# Altium footprint library PiezoControlBoard.PcbLib: 30 footprints (part 2 of 2)
Each footprint in its own frame and in the unit in brackets; x right, y up, seen from the top. Pads: shape width x height; smd on the part's side, far side on the other; paste and mask are expansions set on the pad; w line width, h text height; cw(c..) or ccw(c..) is an arc to the next point about the centre after c.
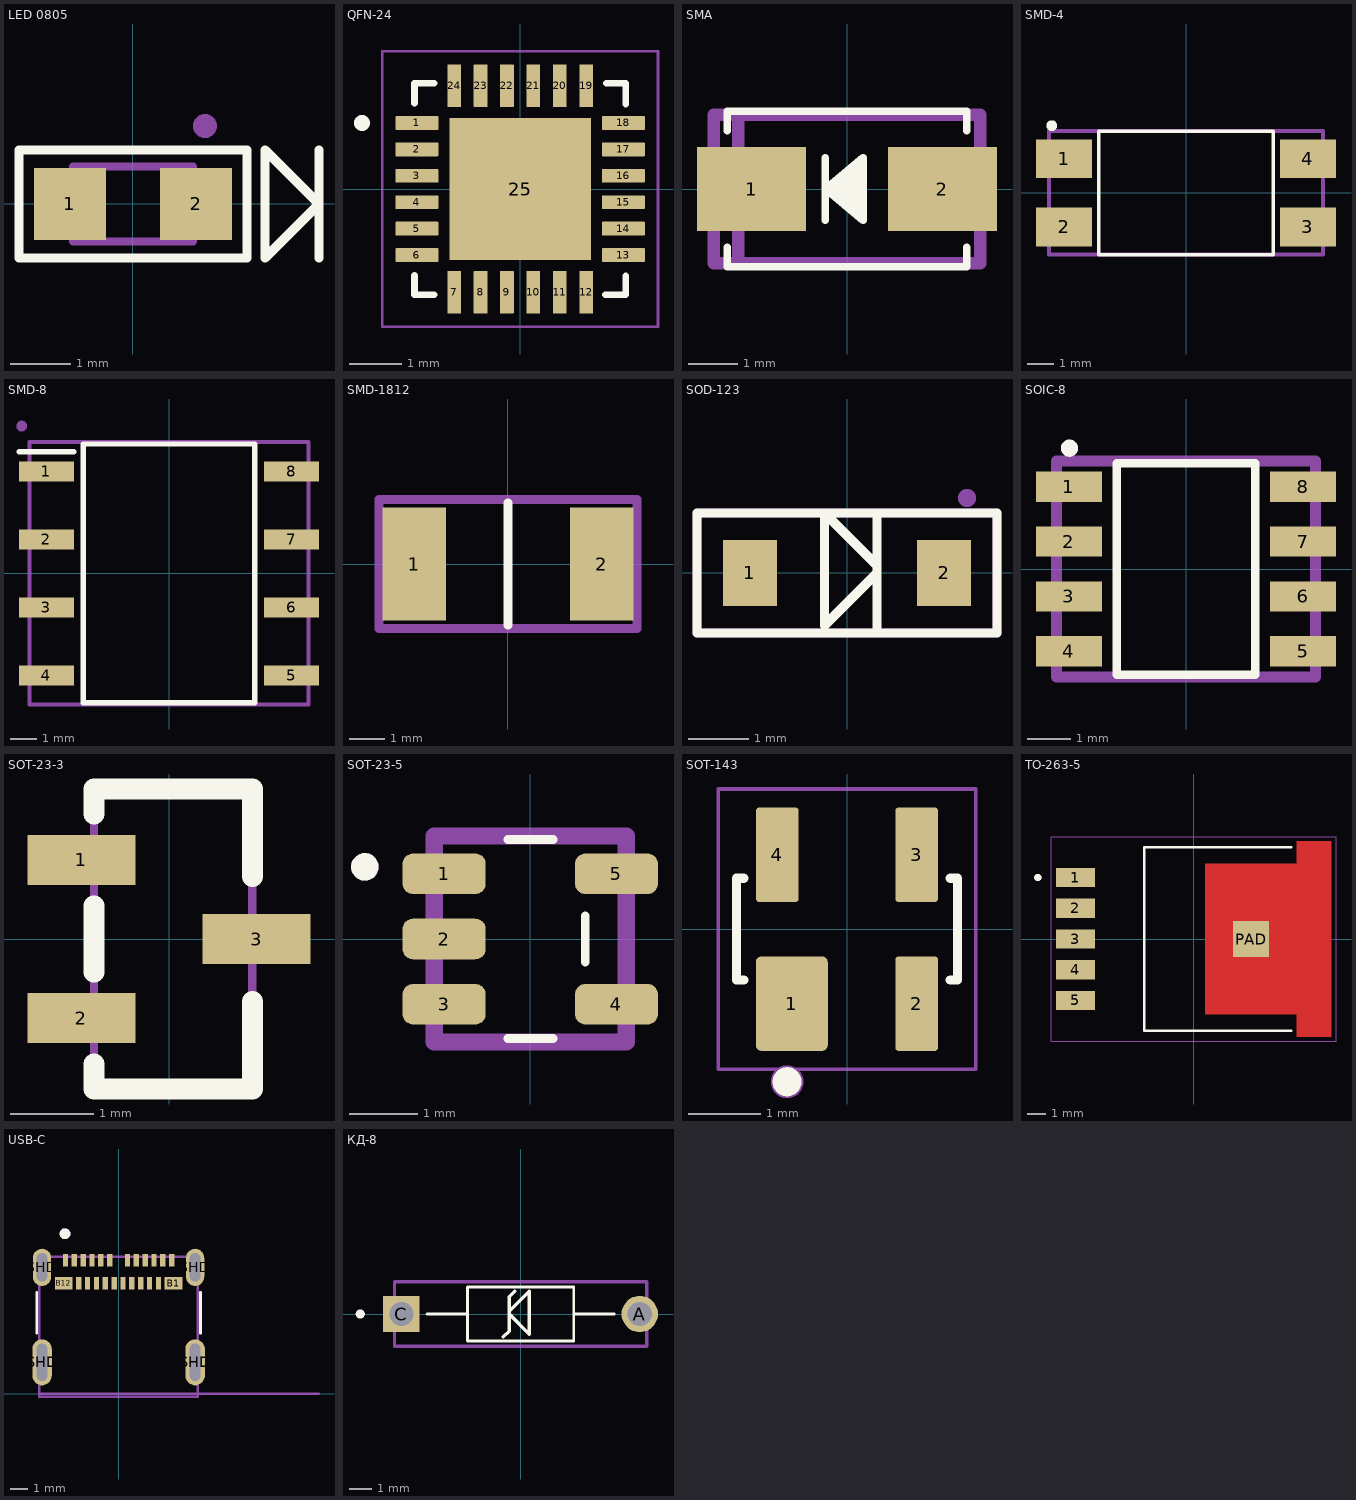
[diagram p1: the footprints below, top view; thin cyan lines are the x and y axes]

## LED 0805 [mm]
pads (2):
  rect 1.2x1.2 smd: 1(-1.05,0) 2(1.05,0)
Top Overlay:
  lines w0.15: 1.9,0.8 1.9,0.9 ; 3.1,-0.9 3.1,0.9 ; 1.9,0.9 -1.9,0.9 -1.9,-0.9 1.9,-0.9 1.9,0.9 ; 3.1,0 2.2,-0.9 2.2,0.9 3.1,0 ; 3.1,0 3.1,0
Mechanical 13:
  circle w0.2: c1.2,1.3 r0.1
Mechanical 29:
  lines w0.127: -1,-0.625 1,-0.625 1,0.625 -1,0.625 -1,-0.625
  text ".Designator" at -1.27,-0.053 h0.5
3D body "LED0805.STEP": height 1.1, standoff 0, extent -1,-0.625 1,0.625

## QFN-24 [mm]
pads (25):
  rrect10% 0.81x0.26 smd: 1(-1.955,1.25) 2(-1.955,0.75) 3(-1.955,0.25) 4(-1.955,-0.25) 5(-1.955,-0.75) 6(-1.955,-1.25) 13(1.955,-1.25) 14(1.955,-0.75) 15(1.955,-0.25) 16(1.955,0.25) 17(1.955,0.75) 18(1.955,1.25)
  rrect10% 0.26x0.81 smd: 7(-1.25,-1.955) 8(-0.75,-1.955) 9(-0.25,-1.955) 10(0.25,-1.955) 11(0.75,-1.955) 12(1.25,-1.955) 19(1.25,1.955) 20(0.75,1.955) 21(0.25,1.955) 22(-0.25,1.955) 23(-0.75,1.955) 24(-1.25,1.955)
  rect 2.68x2.68 smd paste-2: 25(0,0)
Top Overlay:
  circle w0.15: c-2.996,1.25 r0.075
  lines w0.127: -2,-1.639 -2,-2 -1.625,-2 ; -2,1.623 -2,2 -1.63,2 ; 1.612,-2 2,-2 2,-1.643 ; 1.628,2 2,2 2,1.606
Top Paste:
  region: 1.09,-1.09 0.13,-1.09 0.13,-0.13 1.09,-0.13
  region: -0.13,-1.092 -1.092,-1.092 -1.092,-0.13 -0.13,-0.13
  region: 1.09,0.13 0.13,0.13 0.13,1.09 1.09,1.09
  region: -0.13,0.13 -1.091,0.13 -1.091,1.09 -0.13,1.09
Mechanical 29:
  lines w0.05: -2.61,-2.61 -2.61,2.61 2.61,2.61 2.61,-2.61 -2.61,-2.61
  text ".Designator" at -3.454,-0.617 h2
3D body "CP2104.STEP": height 0.81, standoff 0.01, extent -2,-2 2,2

## SMA [mil]
pads (2):
  rect 87x67 smd paste+0 mask+0: 1(-76,0) 2(76,0)
Top Overlay:
  lines w6: -95.5,-46.6 -95.5,-62 95.5,-62 95.5,-46.6 ; -95.5,46.6 -95.5,62 95.5,62 95.5,46.6 ; -17.18,-25 -17.18,25 ; -2.18,0 12.82,0 ; 12.82,-20 -17.18,0 ; 12.82,-15 -17.18,0 ; 12.82,-10 -17.18,0 ; 12.82,-5 -17.18,0 ; 12.82,5 -17.18,0 ; 12.82,10 -17.18,0 ; 12.82,15 -17.18,0 ; 12.82,20 -17.18,0 ; -17.18,0 12.82,-25 12.82,25 -17.18,0
Mechanical 29:
  lines w10: -86.61,-59.06 -86.61,59.06 ; -106.3,-59.06 106.3,-59.06 106.3,59.06 -106.3,59.06 -106.3,-59.06
  text ".Designator" at -74.8,-2.03 h39.37
3D body "STTH2R02A.step": height 104.09, standoff 0.07, extent -105.51,-57.01 105.51,57.01

## SMD-4 [mm]
pads (4):
  rect 2.09x1.44 smd: 1(-4.54,1.27) 2(-4.54,-1.27) 3(4.54,-1.27) 4(4.54,1.27)
Top Overlay:
  circle w0.2: c-5,2.5 r0.1
  lines w0.127: -3.25,-2.3 -3.25,2.3 3.25,2.3 3.25,-2.3 -3.25,-2.3
Mechanical 29:
  lines w0.15: -5.1,-2.3 5.1,-2.3 5.1,2.3 -5.1,2.3 -5.1,-2.3
  text ".Designator" at -3.2,-0.277 h1.5
3D body "FOD817BSD.STEP": height 3.85, standoff 0, extent -5.08,-2.3 5.08,2.3

## SMD-8 [mm]
pads (8):
  rect 2.05x0.75 smd: 1(-4.575,3.81) 2(-4.575,1.27) 3(-4.575,-1.27) 4(-4.575,-3.81) 5(4.575,-3.81) 6(4.575,-1.27) 7(4.575,1.27) 8(4.575,3.81)
Top Overlay:
  lines w0.2: -5.6,4.535 -3.55,4.535 ; -3.2,-4.828 3.2,-4.828 3.2,4.828 -3.2,4.828 -3.2,-4.828
Mechanical 29:
  circle w0.2: c-5.5,5.5 r0.1
  lines w0.15: -5.2,-4.9 5.2,-4.9 5.2,4.9 -5.2,4.9 -5.2,-4.9
  text ".Designator" at -3.5,0.223 h1.5
3D body "HCPL2731SD.stp": height 5.08, standoff 0, extent -5.15,-4.828 5.15,4.828

## SMD-1812 [mm]
pads (2):
  rect 1.78x3.15 smd: 1(-2.615,0) 2(2.615,0)
Top Overlay:
  lines w0.254: 0,-1.7 0,1.7
Mechanical 29:
  lines w0.254: -3.6,-1.8 -3.6,1.8 3.6,1.8 3.6,-1.8 -3.6,-1.8
  text ".Designator" at -4.175,-0.467 h1
3D body "1812L020_60DR.stp": height 1.25, standoff 0, extent -2.275,-1.625 2.275,1.625

## SOD-123 [mm]
pads (2):
  rect 0.9x1.1 smd: 1(-1.62,0) 2(1.62,0)
Top Overlay:
  lines w0.15: 0.5,-1 0.5,-0.75 0.5,1 ; 0.5,0.063 0.5,0 ; 0.5,0 -0.375,-0.875 -0.375,1 0.5,0.125 0.5,0 ; -2.5,-1 -2.5,1 2.5,1 2.5,-1 -2.5,-1
Mechanical 29:
  circle w0.2: c2,1.25 r0.05
  lines w0.15: -2.5,-1 2.5,-1 2.5,1 2,1 -2.5,1 -2.5,-1
  text ".Designator" at -3.644,-0.255 h2
3D body "1N5819HW.STEP": height 1.5, standoff -0.03, extent -1.825,-0.775 1.825,0.775

## SOIC-8 [mm]
pads (8):
  rect 1.525x0.7 smd: 1(-2.712,1.905) 2(-2.712,0.635) 3(-2.712,-0.635) 4(-2.712,-1.905) 5(2.712,-1.905) 6(2.712,-0.635) 7(2.712,0.635) 8(2.712,1.905)
Top Overlay:
  circle w0.2: c-2.7,2.8 r0.1
  lines w0.2: -1.6,-2.45 -1.6,2.45 1.6,2.45 1.6,-2.45 -1.6,-2.45
Mechanical 29:
  circle w0.2: c-2.4,1.9 r0.1
  lines w0.254: -3,-2.5 -3,2.5 3,2.5 3,-2.5 -3,-2.5
  text ".Designator" at -4.444,-0.455 h2
3D body "IR2109STRPBF.stp": height 1.75, standoff 0, extent -3,-2.45 3,2.45

## SOT-23-3 [mm]
pads (3):
  rect 1.3x0.6 smd: 1(-1.05,0.95) 2(-1.05,-0.95) 3(1.05,0)
Top Overlay:
  lines w0.25: -0.9,-1.5 -0.9,-1.8 1,-1.8 1,-0.75 ; -0.9,-0.4 -0.9,0.4 ; -0.9,1.5 -0.9,1.8 1,1.8 1,0.75
Mechanical 29:
  lines w0.1: -0.9,-1.8 -0.9,1.5 -0.9,1.8 1,1.8 1,-1.8 -0.9,-1.8
  text ".Designator" at -2.075,-0.367 h1
3D body "SM712.TCT.step": height 1.21, standoff 0.01, extent -1.185,-1.45 1.185,1.45

## SOT-23-5 [mm]
pads (5):
  rrect50% 1.21x0.59 smd: 1(-1.255,0.95) 2(-1.255,0) 3(-1.255,-0.95) 4(1.255,-0.95) 5(1.255,0.95)
Top Overlay:
  circle w0.2: c-2.41,1.05 r0.1
  lines w0.127: -0.33,-1.45 0.33,-1.45 ; -0.33,1.45 0.33,1.45 ; 0.8,-0.335 0.8,0.335
Mechanical 29:
  circle w0.2: c-2.41,1.05 r0.1
  lines w0.254: -1.4,-1.5 -1.4,1.5 1.4,1.5 1.4,-1.5 -1.4,-1.5
  text ".Designator" at -4.475,-0.367 h1
3D body "TLV271IDBVR.STEP": height 1.31, standoff -0.14, extent -1.4,-1.45 1.4,1.45

## SOT-143 [mm]
pads (4):
  rrect15% 0.99x1.3 smd: 1(-0.76,-1.025)
  rrect15% 0.59x1.3 smd: 2(0.96,-1.025) 3(0.96,1.025) 4(-0.96,1.025)
Top Overlay:
  circle w0.2: c-0.825,-2.1 r0.1
  lines w0.127: -1.42,-0.7 -1.52,-0.7 -1.52,0.7 -1.42,0.7 ; 1.42,-0.7 1.52,-0.7 1.52,0.7 1.42,0.7
Mechanical 29:
  circle w0.25: c-0.825,-2.1 r0.1
  lines w0.05: -1.77,-1.93 -1.77,1.93 1.77,1.93 1.77,-1.93 -1.77,-1.93
  text ".Designator" at -3.884,-0.365 h2
3D body "SP0503BAHTG.STEP": height 1.23, standoff 0.01, extent -1.46,-1.185 1.46,1.185

## TO-263-5 [mm]
pads (6):
  rect 2.16x1.07 smd paste+0 mask+0.102: 1(-6.545,3.4) 2(-6.545,1.7) 3(-6.545,0) 4(-6.545,-1.7) 5(-6.545,-3.4)
  rect 2x2 smd paste-2 mask+0: PAD(3.175,0)
Top Layer:
  region: 7.625,-5.4 5.715,-5.4 5.715,-4.165 0.635,-4.165 0.635,4.165 5.715,4.165 5.715,5.4 7.625,5.4
Top Overlay:
  circle w0.2: c-8.625,3.4 r0.1
  lines w0.127: 5.395,-5.08 -2.735,-5.08 -2.735,5.08 5.395,5.08
Mechanical 29:
  circle w0.2: c-8.625,3.4 r0.1
  lines w0.05: -7.875,-5.65 7.875,-5.65 7.875,5.65 -7.875,5.65 -7.875,-5.65
  text ".Designator" at -4.475,-0.467 h1
3D body "LM2575HVS-12_NOPB.STEP": height 4.77, standoff -0.03, extent -7.175,-5.08 7.175,5.08

## USB-C [mm]
pads (28):
  rect 0.298x0.7 smd: A1(-3,7.54) A2(-2.5,7.54) A3(-2,7.54) A4(-1.5,7.54) A5(-1,7.54) A6(-0.5,7.54) A7(0.5,7.54) A8(1,7.54) A9(1.5,7.54) A10(2,7.54) A11(2.5,7.54) A12(3,7.54) B2(2.25,6.24) B3(1.75,6.24) B4(1.25,6.24) B5(0.75,6.24) B6(0.25,6.24) B7(-0.25,6.24) B8(-0.75,6.24) B9(-1.25,6.24) B10(-1.75,6.24) B11(-2.25,6.24)
  rect 0.998x0.7 smd: B1(3.1,6.24) B12(-3.1,6.24)
  oval 1.1x2.6 hole 0.6 slot 2.1 at 90 deg mask+0.064: SHD(-4.32,1.77) SHD(4.32,1.77)
  oval 1.036x2.1 hole 0.6 slot 1.6 at 90 deg mask+0.064: SHD(-4.32,7.13) SHD(4.32,7.13)
Top Overlay:
  circle w0.3: c-3.025,9.025 r0.15
  lines w0.15: -4.62,3.42 -4.62,5.72 ; 4.62,3.42 4.62,5.72
Mechanical 29:
  circle w0.3: c-3.025,9.025 r0.15
  lines w0.13: -4.47,0 4.47,0 ; 11.31,0 4.47,0 ; 4.47,0 4.47,-0.18 -4.47,-0.18 -4.47,7.72 4.47,7.72 4.47,0
  text ".Designator" at -4.475,3.797 h2
  text "PCB Edge" at 5.4,0.27 h1
3D body "105450-0101.STEP": height 3.21, standoff -0.89, extent -4.42,-0.13 4.52,7.77

## КД-8 [mm]
pads (2):
  round 1.59 hole 1.06: A(5.197,0)
  rect 1.59x1.59 / inner round 1.59 / far side rect 1.59x1.59 hole 1.06: C(-5.197,0)
Top Overlay:
  circle w0.2: c-6.992,0 r0.1
  lines w0.127: -4.082,0 -2.318,0 ; 4.082,0 2.318,0 ; -2.318,0 -2.318,-1.18 2.318,-1.18 2.318,0 ; -2.318,0 -2.318,1.18 2.318,1.18 2.318,0
  lines w0.15: -0.75,-1 -0.5,-0.75 ; -0.5,0.063 -0.5,0 ; -0.25,1 -0.5,0.75 -0.5,-0.75 ; -0.5,-0.75 -0.5,-0.75 ; -0.5,0 0.375,-0.875 0.375,1 -0.5,0.125 -0.5,0
Mechanical 29:
  lines w0.15: -5.5,-1.4 -5.5,1.4 5.5,1.4 5.5,-1.4 -5.5,-1.4
  text ".Designator" at -3.884,-0.365 h2
3D body "1N5817-T.STEP": height 2.68, standoff -21.77, extent -5.474,-1.346 5.474,1.346